# Altium schematic symbol library LTST-C190CKT.SchLib: 2 symbols
Pins are listed as number, name and electrical type; pins without a type are passive.

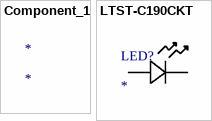
[diagram p0: symbols Component_1 to LTST-C190CKT]

## Component_1
designator *

## LTST-C190CKT
designator LED?
No Description Available; Mfr_Name: LITE-ON
footprint LED_LTST-C190CKT_LTO
pins: 1, 2